# EAGLE library part PICO (library raspberry-pi)
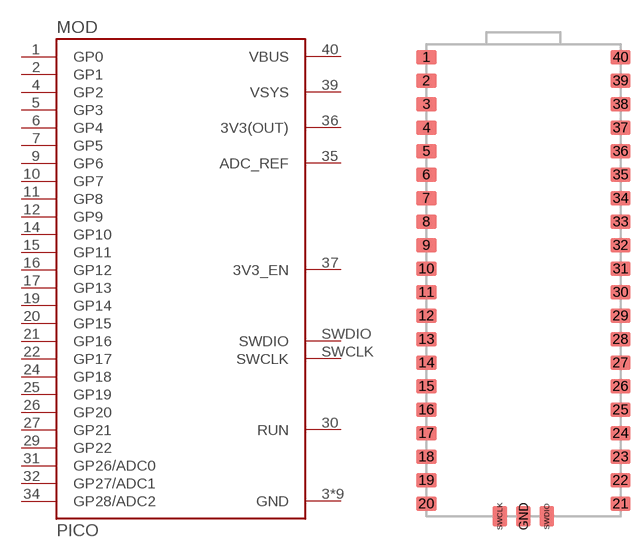
[diagram p1: symbol with the pads of PICO_SMT; footprint PICO_SMT]

Designator prefix MOD

## PICOS  [PICO_SMT]
1  GP0
2  GP1
3  GND
4  GP2
5  GP3
6  GP4
7  GP5
8  GND
9  GP6
10  GP7
11  GP8
12  GP9
13  GND
14  GP10
15  GP11
16  GP12
17  GP13
18  GND
19  GP14
20  GP15
21  GP16
22  GP17
23  GND
24  GP18
25  GP19
26  GP20
27  GP21
28  GND
29  GP22
30  RUN
31  GP26/ADC0
32  GP27/ADC1
33  GND
34  GP28/ADC2
35  ADC_REF
36  3V3(OUT)
37  3V3_EN
38  GND
39  VSYS
40  VBUS
GND  GND
SWCLK  SWCLK
SWDIO  SWDIO

## Footprint PICO_SMT (pad centres in mm)
smd 2.2 x 1.6: 1 0,49.63; 2 0,47.09; 3 0,44.55; 4 0,42.01; 5 0,39.47; 6 0,36.93; 7 0,34.39; 8 0,31.85; 9 0,29.31; 10 0,26.77; 11 0,24.23; 12 0,21.69; 13 0,19.15; 14 0,16.61; 15 0,14.07; 16 0,11.53; 17 0,8.99; 18 0,6.45; 19 0,3.91; 20 0,1.37; 21 21,1.37; 22 21,3.91; 23 21,6.45; 24 21,8.99; 25 21,11.53; 26 21,14.07; 27 21,16.61; 28 21,19.15; 29 21,21.69; 30 21,24.23; 31 21,26.77; 32 21,29.31; 33 21,31.85; 34 21,34.39; 35 21,36.93; 36 21,39.47; 37 21,42.01; 38 21,44.55; 39 21,47.09; 40 21,49.63
smd 1.6 x 2.2: GND 10.5,0; SWCLK 7.96,0; SWDIO 13.04,0